# Altium footprint library ds1069_5mvw6x.PcbLib: 1 footprints
Each footprint in its own frame and in the unit in brackets; x right, y up, seen from the top. Pads: shape width x height; smd on the part's side, far side on the other; paste and mask are expansions set on the pad; w line width, h text height; cw(c..) or ccw(c..) is an arc to the next point about the centre after c.
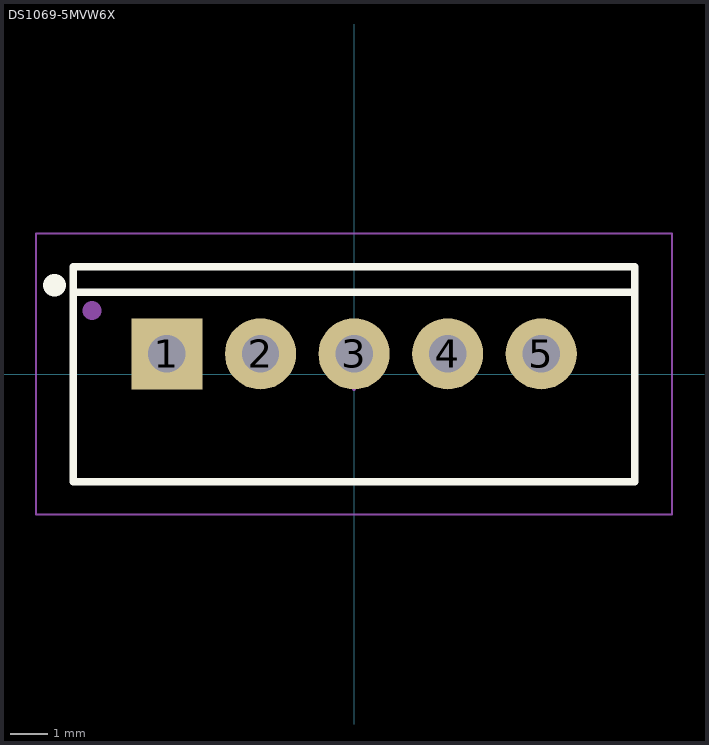
[diagram p0: the footprint, top view; thin cyan lines are the x and y axes]

## DS1069-5MVW6X [mm] "CWF 5 Pins Plug Header, Pitch 2,5mm, V/T Type"
height 7
pads (5):
  rect 1.9x1.9 hole 1: 1(-4.997,0.537)
  round 1.9 hole 1: 2(-2.497,0.537) 3(0.003,0.537) 4(2.503,0.537) 5(5.003,0.537)
Top Overlay:
  circle w0.6: c-8.001,2.372 r0.001
  lines w0.2: -7.504,2.187 7.504,2.187 ; 7.503,-2.88 -7.501,-2.88 -7.501,2.87 7.504,2.87 7.504,-2.875
Top Comment:
  text ".Comment" at 0.7,4.1 h1.2
Top Designator:
  text ".Designator" at -0.6,4.1 h1.2
Top Component Outline:
  lines w0.1: -7.504,2.187 7.504,2.187 ; -7.501,-2.877 -7.501,2.87 7.503,2.87 7.503,-2.875 -7.501,-2.875
  lines w0.5: -7.001,1.69 -6.996,1.695
Top Courtyard (Mech15):
  lines w0.05: -8.5,-3.75 8.5,-3.75 8.5,3.75 -8.5,3.75 -8.5,-3.75
  lines w0.1: -0.4,0 0.4,0 ; 0,-0.4 0,0.4
3D body "DS1069-5 (CWF-5).step": height 7.05, standoff -3.45, extent -7.5,-2.875 7.5,2.875